# Altium footprint library Connectors.PcbLib: 73 footprints (part 2 of 5)
Each footprint in its own frame and in the unit in brackets; x right, y up, seen from the top. Pads: shape width x height; smd on the part's side, far side on the other; paste and mask are expansions set on the pad; w line width, h text height; cw(c..) or ccw(c..) is an arc to the next point about the centre after c.
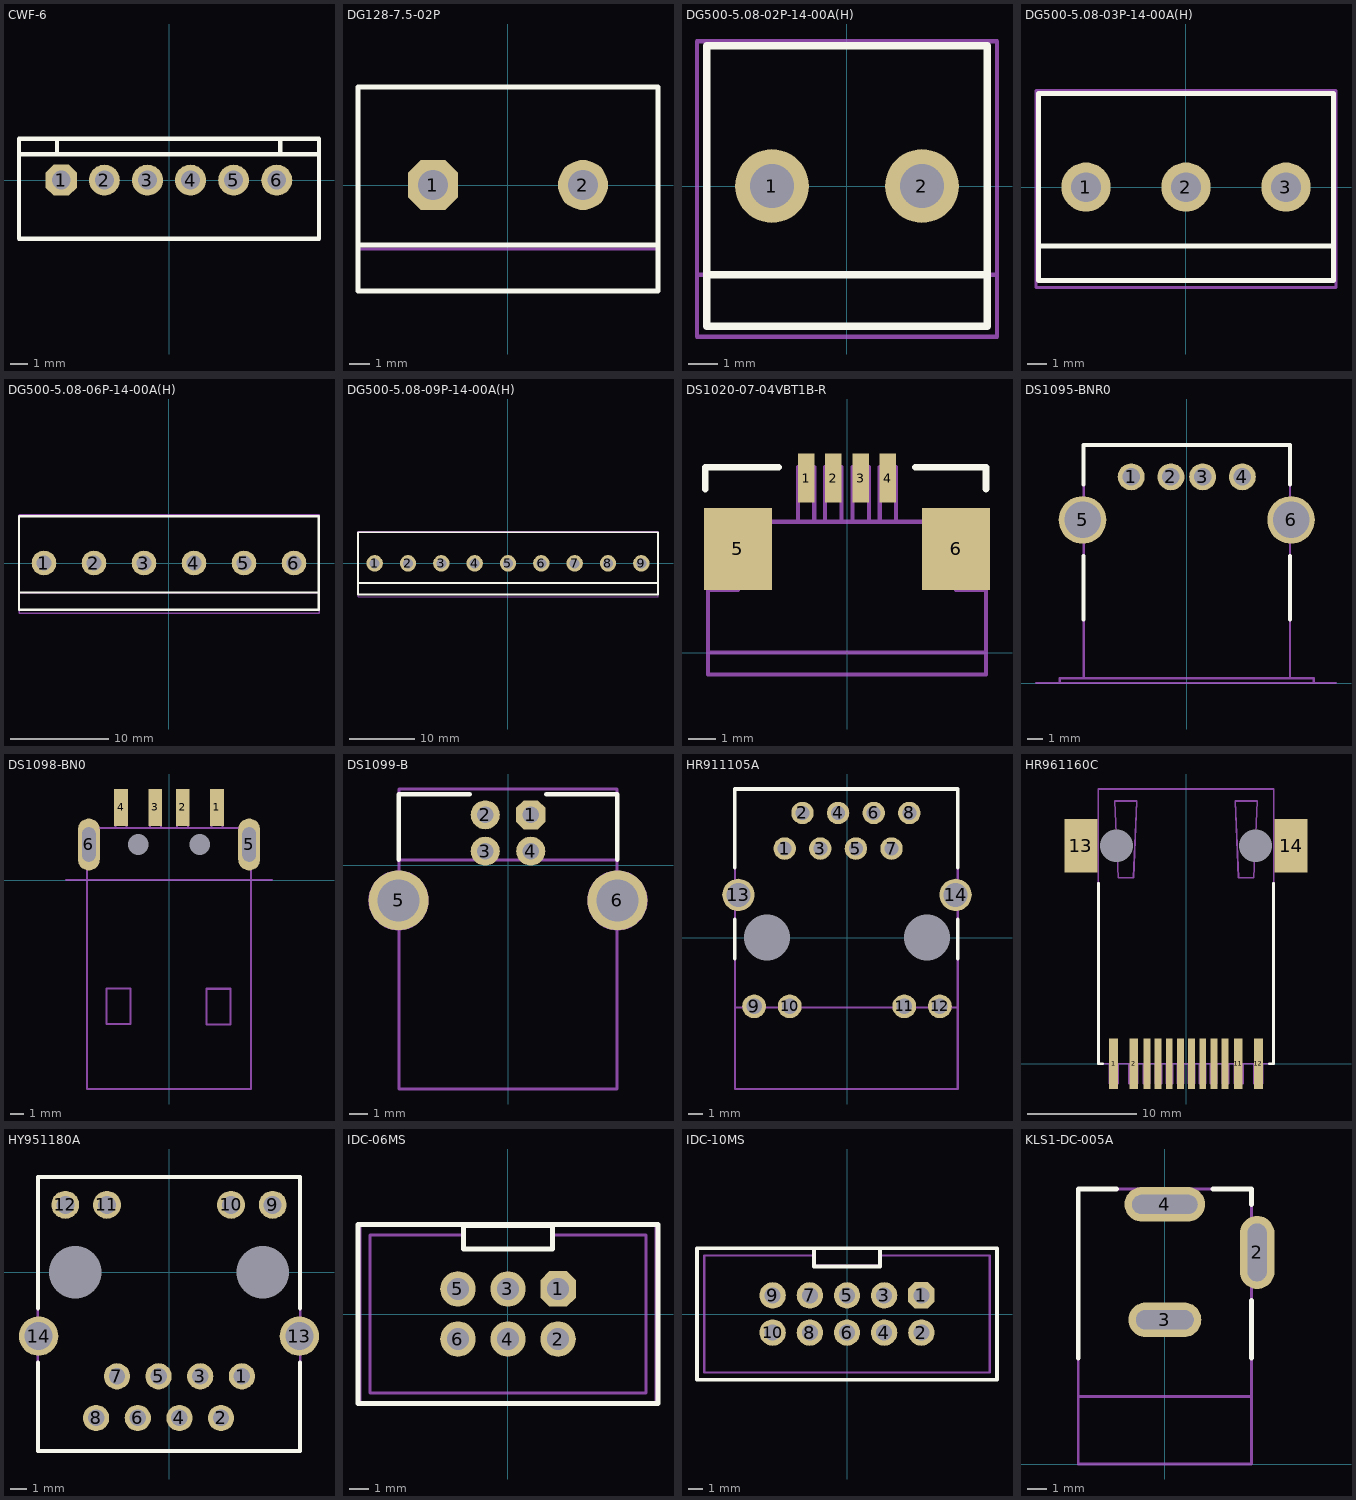
[diagram p1: the footprints below, top view; thin cyan lines are the x and y axes]

## CWF-6 [mm] "3d model: https://www.3dcontentcentral.com/download-model.aspx?catalogid=171&id=1750787"
pads (6):
  oct 1.8x1.8 hole 1.1: 1(-6.25,0)
  round 1.8 hole 1.1: 2(-3.75,0) 3(-1.25,0) 4(1.25,0) 5(3.75,0) 6(6.25,0)
Top Overlay:
  lines w0.25: -8.7,1.5 8.7,1.5 ; -6.5,1.5 -6.5,2.4 ; 6.45,1.5 6.45,2.4 ; -8.7,-3.4 -8.7,2.4 8.7,2.4 8.7,-3.4 -8.7,-3.4
Top Assembly:
  lines w0.15: -8.685,1.474 8.7,1.474 ; -6.485,1.474 -6.485,2.374 ; 6.465,1.474 6.465,2.374 ; -8.685,-3.426 -8.685,2.374 8.7,2.374 8.7,-3.426 -8.685,-3.426
3D body "B6B-XH_mod.step": height 7, standoff -3.3, extent -8.7,-3.375 8.7,2.375

## DG128-7.5-02P [mm]
pads (2):
  oct 2.5x2.5 hole 1.5: 1(-3.75,0)
  round 2.5 hole 1.5: 2(3.75,0)
Top Overlay:
  lines w0.25: -7.5,-3 7.5,-3 ; -7.5,-5.3 7.5,-5.3 7.5,4.9 -7.5,4.9 -7.5,-5.3
Top Assembly:
  lines w0.15: -7.5,-3.2 7.5,-3.2 ; -7.5,-5.3 7.5,-5.3 7.5,4.9 -7.5,4.9 -7.5,-5.3
3D body "DG128-7.5-02P-14-00AH.STEP": height 14.1, standoff -3.4, extent -8.1,-5.3 7.5,4.9

## DG500-5.08-02P-14-00A(H) [mm]
pads (2):
  round 2.5 hole 1.5: 1(-2.54,0) 2(2.54,0)
Top Overlay:
  lines w0.25: -4.75,-3 4.75,-3 ; -4.75,-4.75 4.75,-4.75 4.75,4.75 -4.75,4.75 -4.75,-4.75
Top Assembly:
  lines w0.15: -5.08,-3 5.08,-3 ; -5.08,-5.1 5.08,-5.1 5.08,4.9 -5.08,4.9 -5.08,-5.1
3D body "DG500-5.08-02P-14-00AH.STEP": height 14.25, standoff -3.25, extent -5.08,-4.92 5.66,5.08

## DG500-5.08-03P-14-00A(H) [mm]
pads (3):
  round 2.5 hole 1.5: 1(-5.08,0) 2(0,0) 3(5.08,0)
Top Overlay:
  lines w0.25: -7.5,-3 7.5,-3 ; -7.5,-4.75 7.5,-4.75 7.5,4.75 -7.5,4.75 -7.5,-4.75
Top Assembly:
  lines w0.15: -7.62,-3 7.62,-3 ; -7.62,-5.1 7.62,-5.1 7.62,4.9 -7.62,4.9 -7.62,-5.1
3D body "DG500-5.08-03P-14-00AH.STEP": height 14.25, standoff -3.25, extent -7.62,-4.92 8.2,5.08

## DG500-5.08-06P-14-00A(H) [mm]
pads (6):
  round 2.5 hole 1.5: 1(-12.7,0) 2(-7.62,0) 3(-2.54,0) 4(2.54,0) 5(7.62,0) 6(12.7,0)
Top Overlay:
  lines w0.25: -15.215,-2.997 15.24,-3
  lines w0.254: -15.24,-4.75 15.24,-4.75 15.24,4.75 -15.24,4.75 -15.24,-4.75
Top Assembly:
  lines w0.15: -15.215,-2.997 15.24,-2.997 ; -15.24,-5.1 15.24,-5.1 15.24,4.9 -15.24,4.9 -15.24,-5.1
3D body "DG500-5.08-06P-14-00AH.STEP": height 14.25, standoff -3.25, extent -15.24,-4.92 15.82,5.08

## DG500-5.08-09P-14-00A(H) [mm]
pads (9):
  round 2.5 hole 1.5: 1(-20.32,0) 2(-15.24,0) 3(-10.16,0) 4(-5.08,0) 5(0,0) 6(5.08,0) 7(10.16,0) 8(15.24,0) 9(20.32,0)
Top Overlay:
  lines w0.25: -22.835,-2.997 22.86,-3.002
  lines w0.254: -22.86,-4.75 22.86,-4.75 22.86,4.75 -22.86,4.75 -22.86,-4.75
Top Assembly:
  lines w0.15: -22.835,-2.997 22.86,-2.997 ; -22.86,-5.1 22.86,-5.1 22.86,4.9 -22.86,4.9 -22.86,-5.1
3D body "DG500-5.08-09P-14-00AH.STEP": height 14.25, standoff -3.25, extent -22.86,-4.92 23.44,5.08

## DS1020-07-04VBT1B-R [mm]
pads (6):
  rect 0.6x1.8 smd: 1(-1.5,6.4) 2(-0.5,6.4) 3(0.5,6.4) 4(1.5,6.4)
  rect 2.5x3 smd: 5(-4,3.8) 6(4,3.8)
Top Overlay:
  lines w0.25: -5.2,6 -5.2,6.8 -2.5,6.8 ; 2.5,6.8 5.1,6.8 5.1,6
Top Assembly:
  lines w0.15: -5.1,0 5.1,0 ; -5.1,4.8 -4,4.8 -4,2.3 -5.1,2.3 -5.1,4.8 ; -5.1,4.8 5.1,4.8 ; -5.1,4.8 -5.1,-0.8 5.1,-0.8 5.1,4.8 ; 5.1,4.8 4,4.8 4,2.3 5.1,2.3 5.1,4.8 ; -1.8,4.8 -1.2,4.8 -1.2,6.8 -1.8,6.8 -1.8,4.8 ; -0.8,4.8 -0.2,4.8 -0.2,6.8 -0.8,6.8 -0.8,4.8 ; 0.2,4.8 0.8,4.8 0.8,6.8 0.2,6.8 0.2,4.8 ; 1.2,4.8 1.8,4.8 1.8,6.8 1.2,6.8 1.2,4.8
3D body "522070485.stp": height 2.7, standoff 0, extent -5.15,-0.8 5.15,6.8

## DS1095-BNR0 [mm]
pads (6):
  round 1.7 hole 1.1: 1(-3.5,12.99) 2(-1,12.99) 3(1,12.99) 4(3.5,12.99)
  round 3 hole 2.3: 5(-6.57,10.28) 6(6.57,10.28)
Top Overlay:
  lines w0.25: -6.5,4 -6.5,8 ; -6.5,12.5 -6.5,15 6.5,15 6.5,12.5 ; 6.5,4 6.5,8
Mechanical 1:
  lines w0.15: -9.5,0 9.4,0
  text "PCB EDGE" at -4.05,0.4 h1.1
Top Assembly:
  lines w0.15: -6.5,0.3 -6.5,15 6.5,15 6.5,0.3 ; 6.5,0.3 8,0.3 8,0 -8,0 -8,0.3 -6.3,0.3 6.5,0.3
3D body "676430910.stp": height 7.93, standoff -3.5, extent -7.997,-0.03 7.997,15.23

## DS1098-BN0 [mm]
pads (8):
  rect 1x2.7 smd: 1(3.5,5.3) 2(1,5.3) 3(-1,5.3) 4(-3.5,5.3)
  oval 1.6x3.8 hole 1 slot 2.5 at 90 deg: 5(5.85,2.6) 6(-5.85,2.6)
  round 0 hole 1.5 unplated: -1(-2.25,2.6) -2(2.25,2.6)
Mechanical 1:
  lines w0.15: -7.5,0 7.5,0
  text "PCB EDGE" at -4.35,0.4 h1.1
Top Assembly:
  lines w0.15: -6,-15.25 6,-15.25 6,3.8 -6,3.8 -6,-15.25 ; -4.55,-10.503 -2.8,-10.503 -2.8,-7.903 -4.55,-7.903 -4.55,-10.503 ; -3.9,3.8 -3.1,3.8 -3.1,6.5 -3.9,6.5 -3.9,3.8 ; -1.4,3.8 -0.6,3.8 -0.6,6.5 -1.4,6.5 -1.4,3.8 ; 0.6,3.8 1.4,3.8 1.4,6.5 0.6,6.5 0.6,3.8 ; 2.745,-10.533 4.495,-10.533 4.495,-7.933 2.745,-7.933 2.745,-10.533 ; 3.1,3.8 3.9,3.8 3.9,6.45 3.1,6.45 3.1,3.8
3D body "480372200.stp": height 2.25, standoff -2.25, extent -6.025,-15.175 6.025,5.775

## DS1099-B [mm]
pads (6):
  oct 1.6x1.6 hole 0.9: 1(1.25,2.78)
  round 1.6 hole 0.9: 2(-1.25,2.78) 3(-1.25,0.78) 4(1.25,0.78)
  round 3.3 hole 2.3: 5(-6.02,-1.93) 6(6.02,-1.93)
Top Overlay:
  lines w0.25: -6,0.3 -6,3.9 -2.1,3.9 ; 2.101,3.922 6.001,3.922 ; 6,0.3 6,3.9
Top Assembly:
  circle w0.15: c6.02,-1.93 r1.581
  circle w0.15: c-6.02,-1.93 r1.581
  lines w0.15: -6,-3.511 -6,-12.3 6,-12.3 6,-3.511 ; -6,-0.349 -6,4.2 6,4.2 6,-0.349 ; -6,0.3 6,0.3
3D body "User Library-Samtec - USB-B-S-X-W-TH.STEP": height 11, standoff -3.64, extent -7.4,-12.3 7.398,4.2

## HR911105A [mm]
pads (16):
  round 1.6 hole 1: 1(-4.445,6.35) 2(-3.175,8.89) 3(-1.905,6.35) 4(-0.635,8.89) 5(0.635,6.35) 6(1.905,8.89) 7(3.175,6.35) 8(4.445,8.89)
  round 1.7 hole 1.1: 9(-6.625,-4.9) 10(-4.085,-4.9) 11(4.085,-4.9) 12(6.625,-4.9)
  round 2.3 hole 1.7: 13(-7.75,3.05) 14(7.75,3.05)
  round 0 hole 3.3 unplated: -1(-5.715,0) -2(5.715,0)
Top Overlay:
  lines w0.25: -8,-1.5 -8,1.3 ; -8,5 -8,10.6 7.9,10.6 7.9,5 ; 7.9,-1.5 7.9,1.3
Top Assembly:
  lines w0.15: -8,-5 7.9,-5 ; -8,-10.8 -8,0 -8,10.6 7.9,10.6 7.9,0 7.9,-10.8 -8,-10.8
3D body "HANRUN HR911105A.stp": height 13.95, standoff -2, extent -8,-10.92 8,10.68

## HR961160C [mm]
pads (16):
  rect 0.81x4.6 smd: 1(-6.61,0) 2(-4.77,0) 11(4.77,0) 12(6.61,0)
  rect 0.61x4.6 smd: 3(-3.57,0) 4(-2.55,0) 5(-1.53,0) 6(-0.51,0) 7(0.51,0) 8(1.53,0) 9(2.55,0) 10(3.57,0)
  rect 3x4.9 smd: 13(-9.6,19.92) 14(9.6,19.92)
  round 0 hole 3 unplated: -1(-6.35,19.92) -2(6.35,19.92)
Top Overlay:
  lines w0.25: -8,16.5 -8,0 -7.6,0 ; 7.6,0 8,0 8,16.5
Top Assembly:
  lines w0.15: -8,0 8,0 8,25.1 -8,25.1 -8,0 ; -7,-1.8 -6.2,-1.8 -6.2,0 -7,0 -7,-1.8 ; -6.5,24 -6.2,17 -4.8,17 -4.5,24 -6.5,24 ; -5.2,-1.8 -4.4,-1.8 -4.4,0 -5.2,0 -5.2,-1.8 ; -3.9,-1.8 -3.3,-1.8 -3.3,0 -3.9,0 -3.9,-1.8 ; -2.8,-1.8 -2.2,-1.8 -2.2,0 -2.8,0 -2.8,-1.8 ; -1.8,-1.8 -1.2,-1.8 -1.2,0 -1.8,0 -1.8,-1.8 ; -0.8,-1.8 -0.2,-1.8 -0.2,0 -0.8,0 -0.8,-1.8 ; 0.2,-1.8 0.8,-1.8 0.8,0 0.2,0 0.2,-1.8 ; 1.2,-1.8 1.8,-1.8 1.8,0 1.2,0 1.2,-1.8 ; 2.2,-1.8 2.8,-1.8 2.8,0 2.2,0 2.2,-1.8 ; 3.3,-1.8 3.9,-1.8 3.9,0 3.3,0 3.3,-1.8 ; 4.4,-1.8 5.2,-1.8 5.2,0 4.4,0 4.4,-1.8 ; 4.5,24 4.8,17 6.2,17 6.5,24 4.5,24 ; 6.2,-1.8 7,-1.8 7,0 6.2,0 6.2,-1.8
3D body "1X1RJ45_SMT.STEP": height 15.25, standoff -0.82, extent -9.46,-1.703 9.478,25.147

## HY951180A [mm]
pads (16):
  round 1.6 hole 1 unplated: 1(4.445,-6.35) 2(3.175,-8.89) 3(1.905,-6.35) 4(0.635,-8.89) 5(-0.635,-6.35) 6(-1.905,-8.89) 7(-3.175,-6.35) 8(-4.445,-8.89)
  round 1.7 hole 1.1 unplated: 9(6.325,4.11) 10(3.785,4.11) 11(-3.785,4.11) 12(-6.325,4.11)
  round 2.4 hole 1.7 unplated: 13(7.95,-3.9) 14(-7.95,-3.9)
  round 0 hole 3.2 unplated: -1(5.715,0) -2(-5.715,0)
Top Overlay:
  lines w0.25: -8,-5.5 -8,-10.9 8,-10.9 8,-5.5 ; -8,-2.2 -8,5.8 8,5.8 8,-2.2
Top Assembly:
  lines w0.15: -8,-10.9 8,-10.9 8,5.8 -8,5.8 -8,-10.9
3D body "c-5-2301995-3.stp": height 17, standoff -3.07, extent -8.025,-11.1 8.025,5.85

## IDC-06MS [mm]
pads (6):
  oct 1.8x1.8 hole 1.1: 1(2.54,1.27)
  round 1.8 hole 1.1: 2(2.54,-1.27) 3(0,1.27) 4(0,-1.27) 5(-2.54,1.27) 6(-2.54,-1.27)
Top Overlay:
  lines w0.25: -7.61,-4.55 7.61,-4.55 7.61,4.55 -7.61,4.55 -7.61,-4.55 ; -2.25,3.3 2.25,3.3 2.25,4.5 -2.25,4.5 -2.25,3.3
Top Assembly:
  lines w0.15: -2.25,4 -7,4 -7,-4 7,-4 7,4 2.25,4 ; -7.5,-4.5 7.5,-4.5 7.5,4.5 -7.5,4.5 -7.5,-4.5 ; -2.25,3.3 2.25,3.3 2.25,4.5 -2.25,4.5 -2.25,3.3
3D body "IDC-06MS.step": height 9.1, standoff -2.9, extent -7.61,-4.539 7.61,4.561

## IDC-10MS [mm]
pads (10):
  oct 1.8x1.8 hole 1.1: 1(5.08,1.27)
  round 1.8 hole 1.1: 2(5.08,-1.27) 3(2.54,1.27) 4(2.54,-1.27) 5(0,1.27) 6(0,-1.27) 7(-2.54,1.27) 8(-2.54,-1.27) 9(-5.08,1.27) 10(-5.08,-1.27)
Top Overlay:
  lines w0.25: -10.25,-4.5 10.25,-4.5 10.25,4.5 2.25,4.5 ; -10.25,-4.5 -10.25,-4.5 ; -10.25,-4.5 -10.25,4.5 -2.25,4.5 ; -2.25,4.5 2.25,4.5 ; -2.25,4.5 -2.25,3.25 2.25,3.25 2.25,4.5 ; 2.25,4.5 2.25,4.5
Top Assembly:
  lines w0.15: -2.31,4 -7.06,4 -9.75,4 -9.75,-4 -7.06,-4 6.94,-4 9.75,-4 9.75,4 ; 2.19,4 6.94,4 9.75,4 ; -10.25,-4.5 -7.56,-4.5 7.44,-4.5 10.25,-4.5 10.25,4.5 ; -10.25,-4.5 -10.25,-4.5 ; -10.25,-4.5 -10.25,4.5 -7.56,4.5 7.44,4.5 10.25,4.5 ; 9.75,4 9.75,4 ; 10.25,4.5 10.25,4.5 ; -2.31,3.3 2.19,3.3 2.19,4.5 -2.31,4.5 -2.31,3.3
3D body "IDC-10MS.step": height 9.1, standoff -3.5, extent -10.25,-4.4 10.25,4.5

## KLS1-DC-005A [mm]
pads (3):
  oval 1.8x3.8 hole 1 slot 3 at 90 deg: 2(4.8,11)
  oval 3.8x1.8 hole 1 slot 3 at 0 deg: 3(0,7.5)
  oval 4.2x1.8 hole 1 slot 3.4 at 0 deg: 4(0,13.5)
Top Overlay:
  lines w0.25: -4.5,5.5 -4.5,14.3 -2.5,14.3 ; 2.5,14.3 4.5,14.3 4.5,13.5 ; 4.5,5.5 4.5,8.5
Top Assembly:
  lines w0.15: -4.5,3.5 4.5,3.5 ; -4.5,0 4.5,0 4.5,14.3 -4.5,14.3 -4.5,0
3D body "DC_Power_Jack_PCB_Mounted_2.1mm.step": height 11, standoff -4.1, extent -4.5,0 4.95,14.2